# Altium footprint library SOIC8.PcbLib: 1 footprints
Each footprint in its own frame and in the unit in brackets; x right, y up, seen from the top. Pads: shape width x height; smd on the part's side, far side on the other; paste and mask are expansions set on the pad; w line width, h text height; cw(c..) or ccw(c..) is an arc to the next point about the centre after c.
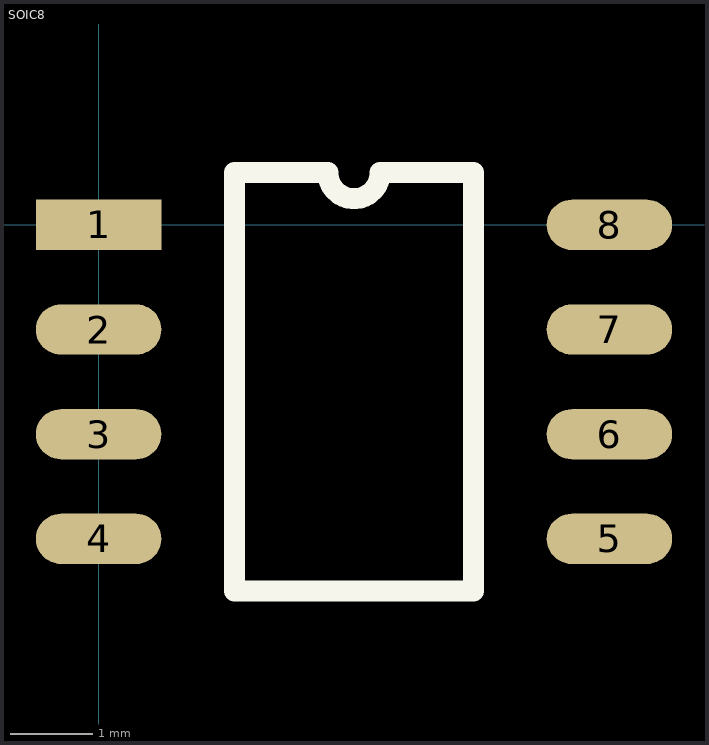
[diagram p0: the footprint, top view; thin cyan lines are the x and y axes]

## SOIC8 [mil]
pads (8):
  rect 60x24 smd: 1(0,0)
  oval 60x24 smd: 2(0,-50) 3(0,-100) 4(0,-150) 5(244,-150) 6(244,-100) 7(244,-50) 8(244,0)
Top Overlay:
  lines w10: 65,-175 65,25 109.5,25 ccw(c122,25) 134.5,25 179,25 179,-175 65,-175